# Altium schematic symbol library BJT-PNP.SchLib: 6 symbols
Pins are listed as number, name and electrical type; pins without a type are passive.

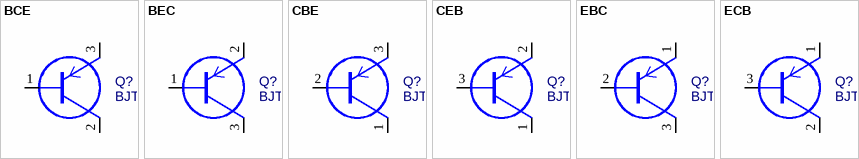
[diagram p0: symbols BCE to ECB]

## BCE
designator Q?, comment BJT
Bipolar Junction Transistor (NPN); ComponentLink1Description: Datasheet; Created: 2015-07-01; Last Updated: 2015-07-01
pins: 1 B, 2 C, 3 E

## BEC
designator Q?, comment BJT
Bipolar Junction Transistor (NPN); ComponentLink1Description: Datasheet; Created: 2015-07-01; Last Updated: 2015-07-01
pins: 1 B, 2 E, 3 C

## CBE
designator Q?, comment BJT
Bipolar Junction Transistor (NPN); ComponentLink1Description: Datasheet; Created: 2015-07-01; Last Updated: 2015-07-01
pins: 1 C, 2 B, 3 E

## CEB
designator Q?, comment BJT
Bipolar Junction Transistor (NPN); ComponentLink1Description: Datasheet; Created: 2015-07-01; Last Updated: 2015-07-01
pins: 1 C, 2 E, 3 B

## EBC
designator Q?, comment BJT
Bipolar Junction Transistor (NPN); ComponentLink1Description: Datasheet; Created: 2015-07-01; Last Updated: 2015-07-01
pins: 1 E, 2 B, 3 C

## ECB
designator Q?, comment BJT
Bipolar Junction Transistor (NPN); ComponentLink1Description: Datasheet; Created: 2015-07-01; Last Updated: 2015-07-01
pins: 1 E, 2 C, 3 B